# EAGLE library part CS4398 (library cirrus)
AUDIO D/A CONVERTOR Stereo 120 dB, 192 kHz, Multi-Bit Audio D/A with Volume Control
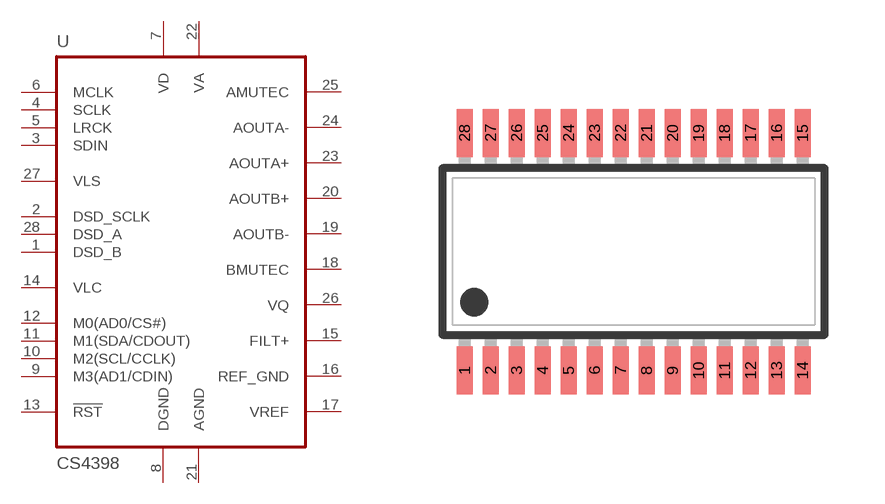
[diagram p3: symbol with the pads of TSSOP28L; footprint TSSOP28L]

Designator prefix U

## CS4398  [TSSOP28L]
1  DSD_B
2  DSD_SCLK
3  SDIN  in
4  SCLK
5  LRCK
6  MCLK  in
7  VD  pwr
8  DGND  pwr
9  M3(AD1/CDIN)  in
10  M2(SCL/CCLK)  in
11  M1(SDA/CDOUT)  in
12  M0(AD0/CS#)  in
13  !RST!  in
14  VLC  pwr
15  FILT+  pas
16  REF_GND  pas
17  VREF  pas
18  BMUTEC  pas
19  AOUTB-  pas
20  AOUTB+  pas
21  AGND  pwr
22  VA  pwr
23  AOUTA+  pas
24  AOUTA-  pas
25  AMUTEC  pas
26  VQ  pas
27  VLS  pwr
28  DSD_A

## Footprint TSSOP28L (pad centres in mm)
Small Shrink Outline Package JEDEC MO-153
smd 0.4 x 1.2: 1 -3.575,-2.97; 2 -2.925,-2.97; 3 -2.275,-2.97; 4 -1.625,-2.97; 5 -0.975,-2.97; 6 -0.325,-2.97; 7 0.325,-2.97; 8 0.975,-2.97; 9 1.625,-2.97; 10 2.275,-2.97; 11 2.925,-2.97; 12 3.575,-2.97; 13 4.225,-2.97; 14 4.875,-2.97; 15 4.875,2.97; 16 4.225,2.97; 17 3.575,2.97; 18 2.925,2.97; 19 2.275,2.97; 20 1.625,2.97; 21 0.975,2.97; 22 0.325,2.97; 23 -0.325,2.97; 24 -0.975,2.97; 25 -1.625,2.97; 26 -2.275,2.97; 27 -2.925,2.97; 28 -3.575,2.97